# EAGLE library part KEYPAD_4X4 (library LocalLib)
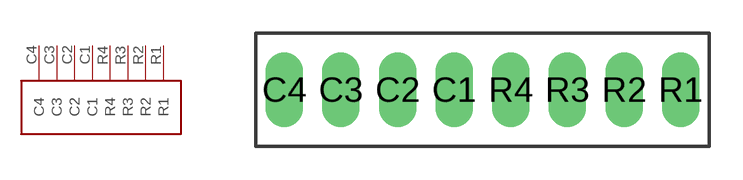
[diagram p1: symbol with the pads of KEYPAD_4X4; footprint KEYPAD_4X4]

Designator prefix -

## KEYPAD_4X4  [KEYPAD_4X4]
C1  C1
C2  C2
C3  C3
C4  C4
R1  R1
R2  R2
R3  R3
R4  R4

## Footprint KEYPAD_4X4 (pad centres in mm)
drill 1 pad 1.676 long: C1 -10.16,3.81; C2 -12.7,3.81; C3 -15.24,3.81; C4 -17.78,3.81; R1 0,3.81; R2 -2.54,3.81; R3 -5.08,3.81; R4 -7.62,3.81